# EAGLE library part ADXL345 (library motorFeedback)
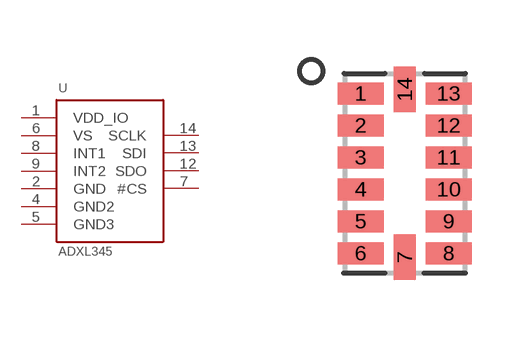
[diagram p7: symbol with the pads of LGA-14; footprint LGA-14]

Designator prefix -

## ADXL345  [LGA-14]
1  VDD_IO
2  GND
4  GND2
5  GND3
6  VS
7  #CS
8  INT1
9  INT2
12  SDO
13  SDI
14  SCLK

## Footprint LGA-14 (pad centres in mm)
smd 1.145 x 0.55: 1 -1.1,2; 2 -1.1,1.2; 3 -1.1,0.4; 4 -1.1,-0.4; 5 -1.1,-1.2; 6 -1.1,-2; 8 1.1,-2; 9 1.1,-1.2; 10 1.1,-0.4; 11 1.1,0.4; 12 1.1,1.2; 13 1.1,2
smd 0.55 x 1.145: 7 0,-2.1; 14 0,2.1